# EAGLE library part LM2674 (library canusb)
LM2674 SIMPLE SWITCHER® Power Converter High Efficiency 500-mA Step-Down Voltage Regulator
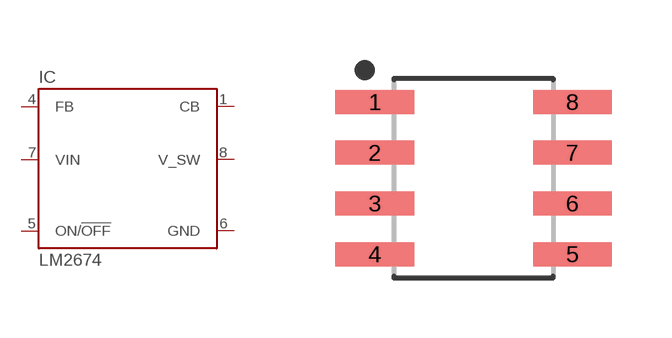
[diagram p7: symbol with the pads of SOIC127P599X265-8N; footprint SOIC127P599X265-8N]

Designator prefix IC

## LM2674  [SOIC127P599X265-8N]
1  CB  pas
4  FB  pwr
5  ON/!OFF  pwr
6  GND  pwr
7  VIN  pwr
8  V_SW  pas

## Footprint SOIC127P599X265-8N (pad centres in mm)
8-SOIC, 1.27 mm pitch, 6.00 mm span, 4.91 X 3.90 X 2.65 mm body 8-pin SOIC package with 1.27 mm pitch, 6.00 mm span with body size 4.91 X 3.90 X 2.65 mm
smd 1.967 x 0.599: 1 -2.469,1.905; 2 -2.469,0.635; 3 -2.469,-0.635; 4 -2.469,-1.905; 5 2.469,-1.905; 6 2.469,-0.635; 7 2.469,0.635; 8 2.469,1.905